# EAGLE library part LSM303DLHC (library LSM303DLHC)
ST LSM303DLHC I2C MEMS Magnetometer and Accelerometer
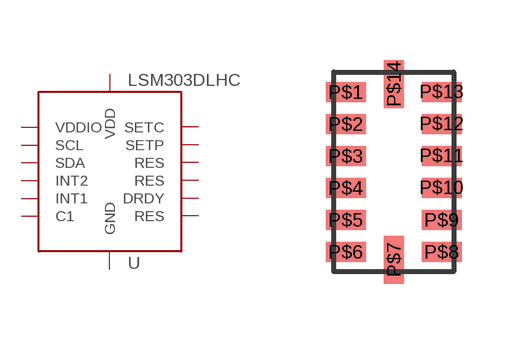
[diagram p0: symbol with the pads of ST_LGA14_3X5; footprint ST_LGA14_3X5]

Designator prefix U

## LSM303DLHC (AVAILABILITY: Unavailable; DESCRIPTION: Ultra compact high performance e-compass: 3D accelerometer and 3D magnetometer module; MF: STMicroelectronics; MP: LSM303DLHC; PACKAGE: LGA-14 STMicroelectronics; PRICE: None)  [ST_LGA14_3X5]
P$1  VDDIO  in
P$2  SCL
P$3  SDA
P$4  INT2  out
P$5  INT1  out
P$6  C1
P$7  GND  pwr
P$8  RES
P$9  DRDY  out
P$10  RES
P$11  RES
P$12  SETP
P$13  SETC
P$14  VDD  pwr

## Footprint ST_LGA14_3X5 (pad centres in mm)
smd 1 x 0.5: P$1 -1.2,2; P$2 -1.2,1.2; P$3 -1.2,0.4; P$4 -1.2,-0.4; P$5 -1.2,-1.2; P$6 -1.2,-2; P$8 1.2,-2; P$9 1.2,-1.2; P$10 1.2,-0.4; P$11 1.2,0.4; P$12 1.2,1.2; P$13 1.2,2
smd 0.5 x 1.2: P$7 0,-2.2; P$14 0,2.2